# Altium footprint library 16SVPC100M.PcbLib: 2 footprints
Each footprint in its own frame and in the unit in brackets; x right, y up, seen from the top. Pads: shape width x height; smd on the part's side, far side on the other; paste and mask are expansions set on the pad; w line width, h text height; cw(c..) or ccw(c..) is an arc to the next point about the centre after c.
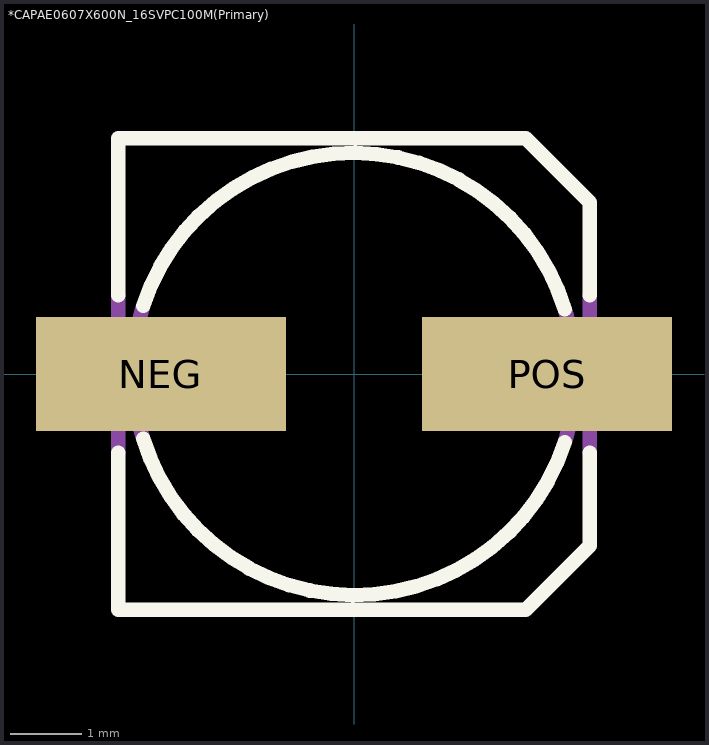
[diagram p0: the footprints below, top view; thin cyan lines are the x and y axes]

## *CAPAE0607X600N_16SVPC100M(Primary) [mm]
pads (2):
  rect 3.5x1.6 smd: NEG(-2.7,0) POS(2.7,0)
Top Overlay:
  lines w0.203: -3.3,-1.1 -3.3,-3.3 2.4,-3.3 3.3,-2.4 3.3,-1.1 ; -3.3,1.1 -3.3,3.3 2.4,3.3 3.3,2.4 3.3,1.1 ; -2.949,-0.904 ccw(c0.008,0) 2.948,-0.955 ; -2.948,0.955 cw(c-0.008,0) 2.949,0.904
Mechanical 4:
  lines w0.203: -3.3,-1.1 -3.3,1.1 -3.3,-1.1 ; -2.957,-0.879 cw(c0,0.025) -2.957,0.929 ccw(c0,0.025) -2.957,-0.879 ; 2.957,-0.929 ccw(c0,-0.025) 2.957,0.879 cw(c0,-0.025) 2.957,-0.929 ; 3.3,-1.1 3.3,1.1 3.3,-1.1

## PCBComponent_1 [mm]